# EAGLE library part TBD62083A (library mylib)
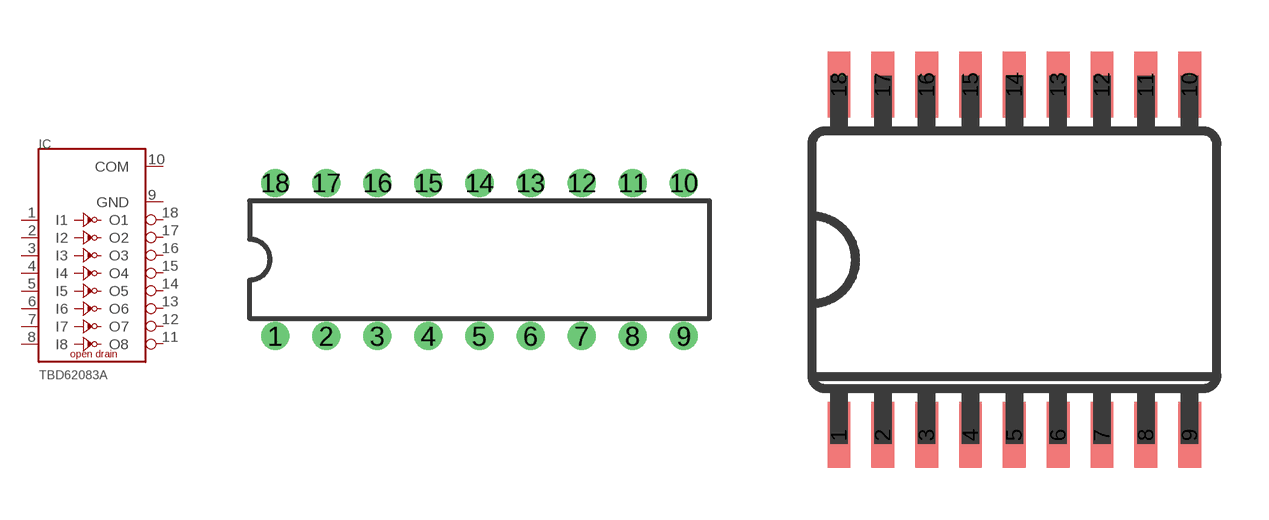
[diagram p27: symbol with the pads of IC-SOCKET-DIL-18; footprints IC-SOCKET-DIL-18, IC-18-1.27-300MIL]

Designator prefix IC

## TBD62083APG (AKIZUKI: I-10669; DIGIKEY: TBD62083APG-ND)  [IC-SOCKET-DIL-18]
1  I1
2  I2
3  I3
4  I4
5  I5
6  I6
7  I7
8  I8
9  GND  pwr
10  COM  pwr
11  O8
12  O7
13  O6
14  O5
15  O4
16  O3
17  O2
18  O1

## TBD62083AFG (AKIZUKI: I-11081; DIGIKEY: TBD62083AFGELCT-ND)  [IC-18-1.27-300MIL]
Pads as for IC-SOCKET-DIL-18

## TBD62083AFNG (AKIZUKI: I-10637; DIGIKEY: TBD62083AFNGELCT-ND; MOUSER: 757-TBD62083AFNGEL)  [SOT65P640X440-18N]
Pads as for IC-SOCKET-DIL-18

## Footprint IC-SOCKET-DIL-18 (pad centres in mm)
Dual In Line Package
drill 0.889: 1 -10.16,-3.81; 2 -7.62,-3.81; 3 -5.08,-3.81; 4 -2.54,-3.81; 5 0,-3.81; 6 2.54,-3.81; 7 5.08,-3.81; 8 7.62,-3.81; 9 10.16,-3.81; 10 10.16,3.81; 11 7.62,3.81; 12 5.08,3.81; 13 2.54,3.81; 14 0,3.81; 15 -2.54,3.81; 16 -5.08,3.81; 17 -7.62,3.81; 18 -10.16,3.81

## Footprint IC-18-1.27-300MIL (pad centres in mm)
smd 0.66 x 1.905: 1 -5.08,-5.08; 2 -3.81,-5.08; 3 -2.54,-5.08; 4 -1.27,-5.08; 5 0,-5.08; 6 1.27,-5.08; 7 2.54,-5.08; 8 3.81,-5.08; 9 5.08,-5.08; 10 5.08,5.08; 11 3.81,5.08; 12 2.54,5.08; 13 1.27,5.08; 14 0,5.08; 15 -1.27,5.08; 16 -2.54,5.08; 17 -3.81,5.08; 18 -5.08,5.08

## Footprint SOT65P640X440-18N (pad centres in mm)
smd 0.4 x 1.8: 1 -2.6,-3.375; 2 -1.95,-3.375; 3 -1.3,-3.375; 4 -0.65,-3.375; 5 0,-3.375; 6 0.65,-3.375; 7 1.3,-3.375; 8 1.95,-3.375; 9 2.6,-3.375; 10 2.6,3.375; 11 1.95,3.375; 12 1.3,3.375; 13 0.65,3.375; 14 0,3.375; 15 -0.65,3.375; 16 -1.3,3.375; 17 -1.95,3.375; 18 -2.6,3.375